# EAGLE library part FT231X (library ERNW_parts)
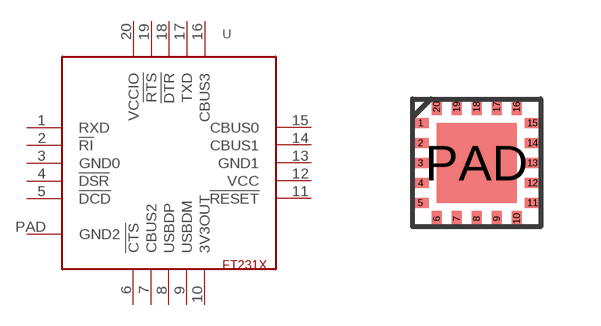
[diagram p11: symbol with the pads of QFN-20-4X4; footprint QFN-20-4X4]

Designator prefix -

## FT231X  [QFN-20-4X4]
1  RXD
2  !RI
3  GND0
4  !DSR
5  !DCD
6  !CTS
7  CBUS2
8  USBDP
9  USBDM
10  3V3OUT
11  !RESET
12  VCC
13  GND1
14  CBUS1
15  CBUS0
16  CBUS3
17  TXD
18  !DTR
19  !RTS
20  VCCIO
PAD  GND2

## Footprint QFN-20-4X4 (pad centres in mm)
smd 0.4 x 0.25: 1 -1.4,1; 2 -1.4,0.5; 3 -1.4,0; 4 -1.4,-0.5; 5 -1.4,-1; 11 1.4,-1; 12 1.4,-0.5; 13 1.4,0; 14 1.4,0.5; 15 1.4,1
smd 0.25 x 0.4: 6 -1,-1.4; 7 -0.5,-1.4; 8 0,-1.4; 9 0.5,-1.4; 10 1,-1.4; 16 1,1.4; 17 0.5,1.4; 18 0,1.4; 19 -0.5,1.4; 20 -1,1.4
smd 2 x 2: PAD 0,0